# Altium integrated library ABLS-12.000MHz-20-B-3-H-T.IntLib: 1 symbol
Pins are listed as number, name and electrical type; pins without a type are passive.

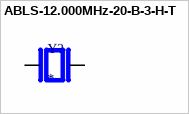
[diagram p0: symbol ABLS-12.000MHz-20-B-3-H-T]

## ABLS-12.000MHz-20-B-3-H-T
designator Y?
Crystal 12MHz ±25ppm (Tol) ±35ppm (Stability) 20pF FUND 50Ohm 2-Pin HC-49/US SMD T/R; Manufacturer: Abracon; MF: Abracon LLC; MP: ABLS-12.000MHZ-20-B-3-H-T; SnapEDA_Link: https://www.snapeda.com/parts/ABLS-12.000MHZ-20-B-3-H-T/Abracon+LLC/view-part/?ref=snap; Check_prices: https://www.snapeda.com/parts/ABLS-12.000MHZ-20-B-3-H-T/Abracon+LLC/view-part/?ref=eda; Digi-Key_Part_Number: 535-15006-2-ND; Package: None; Purchase-URL: https://pricing.snapeda.com/search/part/ABLS-12.000MHZ-20-B-3-H-T/?ref=eda; Value: *; Supplier 1: Digi-Key; Manufacturer Part Number: ABLS-12.000MHZ-20-B-3-H-T; RoHS: Yes; Category: Crystals; Stock 1: 7126; Pricing 1: 1=0.16000, 10=0.13500, 50=0.12180, 100=0.10830, 500=0.10288 (USD); ComponentLink1URL: https://abracon.com/Resonators/abls.pdf?src-supplier=Digi-Key; ComponentLink1Description: https://abracon.com/Resonators/abls.pdf?src-supplier=Digi-Key; Supplier Part Number 1: 535-15006-1-ND
footprint XTAL_ABLS-12.000MHz-20-B-3-H-T
pins: 1, 2